# Altium schematic symbol library Passive Components.SchLib: 6 symbols
Pins are listed as number, name and electrical type; pins without a type are passive.

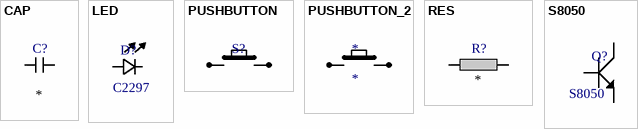
[diagram p0: symbols CAP to S8050]

## CAP
designator C?
SMD Capacitor; Manufacturer: *; Manufacturer Part Number: *; Supplier: *; Supplier Part Number: *; Value: *
footprint 0805
footprint 1206
footprint 0603
footprint 0402
pins: 1, 2

## LED
designator D?  Manufacturer Part Number: C2297
0805 Light Emitting Diodes (LED) ROHS; Manufacturer: Hubei KENTO Elec; Supplier: JLCPCB; Supplier Part Number: C2297
footprint 0805
pins: 1, 2

## PUSHBUTTON
designator S?
NO 6mm Gull Wing 4.3mm Black Round Button Brick nogging SPST 6mm 180gf@±30gf SMD  Tactile Switches ROHS; Manufacturer: Yuandi; Manufacturer Part Number: TS-1095PS-A1B2-C3D2; Supplier: JLCPCB; Supplier Part Number: C2834918
footprint PUSHBUTTON
pins: 1, 2

## PUSHBUTTON_2
designator *
Manufacturer: C&K; Manufacturer Part Number: PTS645SM43SMTR92LFS; Supplier: JLCPCB; Supplier Part Number: C221880
footprint PUSHBUTTON_2
pins: 1, 2

## RES
designator R?
SMD Resistor; Manufacturer: *; Manufacturer Part Number: *; Supplier: *; Supplier Part Number: *; Value: *
footprint 0805
footprint 1206
footprint 0603
footprint 0402
pins: 1, 2

## S8050
designator Q?  Manufacturer Part Number: S8050
Manufacturer: JSMSEMI; Supplier: JLCPCB; Supplier Part Number: C916390
footprint SOT-23-3
pins: 1, 2, 3